# EAGLE library part SW_DPDT_7XXX (library wheat)
Swicth, DPDT toggle, RAPC C&K 7000-series, Mountain Switch MS-100882
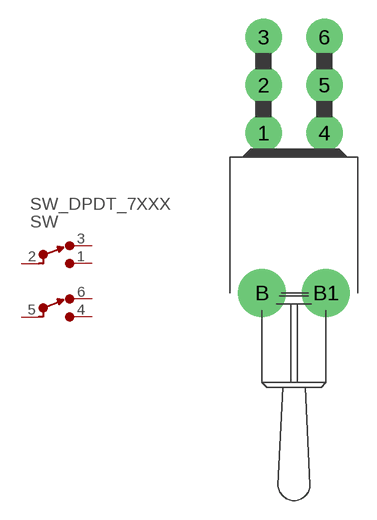
[diagram p49: symbol with the pads of SW_DPDT_7XXX; footprint SW_DPDT_7XXX]

Designator prefix SW

## SW_DPDT_7XXXA  [SW_DPDT_7XXX]
1  NO1  pas
2  C1  pas
3  NC1  pas
4  NO2  pas
5  C2  pas
6  NC2  pas

## Footprint SW_DPDT_7XXX (pad centres in mm)
Switch, DPDT toggle, RA PC C&K 7000 series, Mountain Sw MS-100882
drill 1.93: 1 -2.413,12.7; 2 -2.413,16.51; 3 -2.413,20.32; 4 2.413,12.7; 5 2.413,16.51; 6 2.413,20.32
drill 1.93 pad 3.81: B -2.54,0; B1 2.54,0